# Altium integrated library CM8V-T1A-32.768KHZ-9PF-20PPM-TA-QC.IntLib: 1 symbol
Pins are listed as number, name and electrical type; pins without a type are passive.

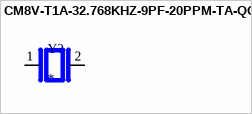
[diagram p0: symbol CM8V-T1A-32.768KHZ-9PF-20PPM-TA-QC]

## CM8V-T1A-32.768KHZ-9PF-20PPM-TA-QC
designator Y?
Tuning Fork Crystal 32.768kHz in 1.2 x 2.0mm package; MF: Micro Crystal; MP: CM8V-T1A-32.768KHZ-9PF-20PPM-TA-QC; SnapEDA_Link: https://www.snapeda.com/parts/CM8V-T1A-32.768KHZ-9PF-20PPM-TA-QC/Micro+Crystal/view-part/?ref=snap; Package: SMD-2 Micro Crystal; Value: *; Check_prices: https://www.snapeda.com/parts/CM8V-T1A-32.768KHZ-9PF-20PPM-TA-QC/Micro+Crystal/view-part/?ref=eda
footprint XTAL_CM8V-T1A-32.768KHZ-9PF-20PPM-TA-QC
pins: 1, 2